# Altium schematic symbol library Displays Backlight.SchLib: 1 symbol
Pins are listed as number, name and electrical type; pins without a type are passive.

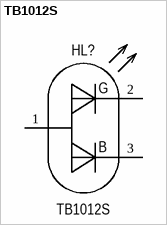
[diagram p0: symbol TB1012S]

## TB1012S
designator HL?
Display Backlight LED GB CA; Group: Display - Backlight; Color: Green, Blue; Forward Current: 250mA; Forward Voltage: 3.0V; Package: TB1012S; Part name: TB1012S; Operating Temperature: -30°C +70°C; Mounting Type: Through Hole; Dimension: 55.00mm x 33.00mm; Thickness: 3.20mm
footprint Display Backlight LED TB1012S
pins: 1 CA, 2 GREEN, 3 BLUE
text: G; B